# Altium footprint library STM32WB55RGV7.PcbLib: 4 footprints
Each footprint in its own frame and in the unit in brackets; x right, y up, seen from the top. Pads: shape width x height; smd on the part's side, far side on the other; paste and mask are expansions set on the pad; w line width, h text height; cw(c..) or ccw(c..) is an arc to the next point about the centre after c.
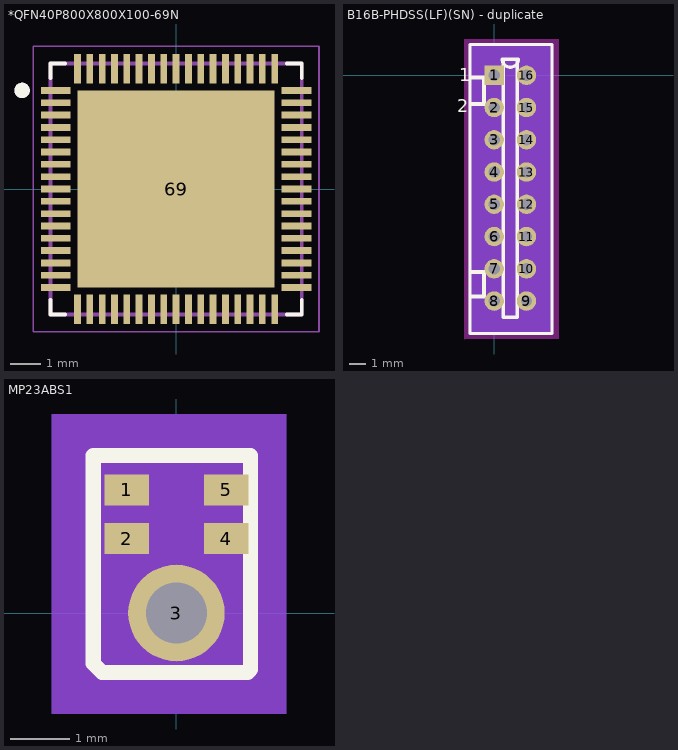
[diagram p0: the footprints below, top view; thin cyan lines are the x and y axes]

## *QFN40P800X800X100-69N [mm]
pads (69):
  rect 0.97x0.22 smd: 1(-3.905,3.2) 2(-3.905,2.8) 3(-3.905,2.4) 4(-3.905,2) 5(-3.905,1.6) 6(-3.905,1.2) 7(-3.905,0.8) 8(-3.905,0.4) 9(-3.905,0) 10(-3.905,-0.4) 11(-3.905,-0.8) 12(-3.905,-1.2) 13(-3.905,-1.6) 14(-3.905,-2) 15(-3.905,-2.4) 16(-3.905,-2.8) 17(-3.905,-3.2) 35(3.905,-3.2) 36(3.905,-2.8) 37(3.905,-2.4) 38(3.905,-2) 39(3.905,-1.6) 40(3.905,-1.2) 41(3.905,-0.8) 42(3.905,-0.4) 43(3.905,0) 44(3.905,0.4) 45(3.905,0.8) 46(3.905,1.2) 47(3.905,1.6) 48(3.905,2) 49(3.905,2.4) 50(3.905,2.8) 51(3.905,3.2)
  rect 0.22x0.97 smd: 18(-3.2,-3.905) 19(-2.8,-3.905) 20(-2.4,-3.905) 21(-2,-3.905) 22(-1.6,-3.905) 23(-1.2,-3.905) 24(-0.8,-3.905) 25(-0.4,-3.905) 26(0,-3.905) 27(0.4,-3.905) 28(0.8,-3.905) 29(1.2,-3.905) 30(1.6,-3.905) 31(2,-3.905) 32(2.4,-3.905) 33(2.8,-3.905) 34(3.2,-3.905) 52(3.2,3.905) 53(2.8,3.905) 54(2.4,3.905) 55(2,3.905) 56(1.6,3.905) 57(1.2,3.905) 58(0.8,3.905) 59(0.4,3.905) 60(0,3.905) 61(-0.4,3.905) 62(-0.8,3.905) 63(-1.2,3.905) 64(-1.6,3.905) 65(-2,3.905) 66(-2.4,3.905) 67(-2.8,3.905) 68(-3.2,3.905)
  rect 6.4x6.4 smd: 69(0,0)
Top Overlay:
  circle w0.3: c-5,3.2 r0.1
  lines w0.127: -4.08,-3.6 -4.08,-4.08 -3.6,-4.08 ; -4.08,3.6 -4.08,4.08 -3.6,4.08 ; 3.6,-4.08 4.08,-4.08 4.08,-3.6 ; 3.6,4.08 4.08,4.08 4.08,3.6
Top Paste:
  region: -0.755,0.755 0.755,0.755 0.755,-0.755 -0.755,-0.755
  region: -0.755,2.885 0.755,2.885 0.755,1.375 -0.755,1.375
  region: -2.885,2.885 -1.375,2.885 -1.375,1.375 -2.885,1.375
  region: -2.885,0.755 -1.375,0.755 -1.375,-0.755 -2.885,-0.755
  region: -2.885,-1.375 -1.375,-1.375 -1.375,-2.885 -2.885,-2.885
  region: -0.755,-1.375 0.755,-1.375 0.755,-2.885 -0.755,-2.885
  region: 1.375,-1.375 2.885,-1.375 2.885,-2.885 1.375,-2.885
  region: 1.375,0.755 2.885,0.755 2.885,-0.755 1.375,-0.755
  region: 1.375,2.885 2.885,2.885 2.885,1.375 1.375,1.375
Mechanical 4:
  circle w0.3: c-5,3.2 r0.1
  circle w0.3: c-5,3.2 r0.1
  lines w0.127: -4.08,-4.08 4.08,-4.08 ; -4.08,-4.08 -4.08,4.08 ; -4.08,-4.08 4.08,-4.08 ; -4.08,-4.08 -4.08,4.08 ; -4.08,4.08 4.08,4.08 ; -4.08,4.08 4.08,4.08 ; 4.08,-4.08 4.08,4.08 ; 4.08,-4.08 4.08,4.08
Mechanical 16:
  lines w0.05: -4.64,-4.64 4.64,-4.64 4.64,4.64 -4.64,4.64 -4.64,-4.64

## B16B-PHDSS(LF)(SN) - duplicate [mm]
pads (16):
  rect 1.2x1.2 hole 0.7: 1(0,0)
  round 1.2 hole 0.7: 2(0,-2) 3(0,-4) 4(0,-6) 5(0,-8) 6(0,-10) 7(0,-12) 8(0,-14) 9(2,-14) 10(2,-12) 11(2,-10) 12(2,-8) 13(2,-6) 14(2,-4) 15(2,-2) 16(2,0)
Top Layer keep-out:
  region: -1.85,2.25 4,2.25 4,-16.35 -1.85,-16.35
Bottom Layer keep-out:
  region: -1.6,2 -1.55,1.95 3.65,1.95 3.65,-16.1 -1.6,-16.1
Top Overlay:
  lines w0.2: -1.5,-16.002 -1.5,1.905 ; -1.484,-16.005 3.516,-16.002 ; -1.484,1.902 3.516,1.905 ; 3.58,-16.002 3.58,1.905 ; 0.5,1 ccw(c1,1) 1.5,1 0.565,1 0.565,-15 1.435,-15 1.435,1 0.5,1
  lines w0.254: -1.397,-13.716 -0.635,-13.716 -0.635,-12.192 -1.397,-12.192 ; -1.397,-1.778 -0.635,-1.778 -0.635,-0.127 -1.397,-0.127
  text "2" at -2.286,-2.286 h0.8
  text "1" at -2.159,-0.381 h0.8
3D body "B16B-PHDSS.STEP": height 3, standoff -6.5, extent -1.397,-15.995 3.603,1.905

## MP23ABS1 [mm]
pads (5):
  rect 0.75x0.522 smd: 1(-0.838,2.074) 2(-0.838,1.252) 4(0.838,1.252) 5(0.838,2.074)
  round 1.625 hole 1.025: 3(0,0)
Top Layer keep-out:
  region: -2.1,3.35 1.85,3.35 1.85,-1.7 -2.1,-1.7
Bottom Layer keep-out:
  region: -2.1,3.35 1.85,3.35 1.85,-1.7 -2.1,-1.7
Top Overlay:
  lines w0.254: -1.4,-0.85 -1.25,-1 1.2,-1 1.25,-0.95 1.25,2.65 -1.4,2.65 -1.4,-0.85
Top Paste:
  lines w0.2: -0.3,0.75 ccw(c-0.004,-0.007) -0.29,-0.768 ; 0.24,-0.77 ccw(c0.012,0.011) 0.35,0.75
3D body "User Library-ICS-40618.step": height 0.98, standoff 0, extent -1.375,-0.9 1.275,2.6

## PCBComponent_1 [mm]